# Altium integrated library TI Amplifiers and Linear Operational Amplifier Precision Amplifier Part Two.IntLib: 2300 symbols (part 44 of 81)
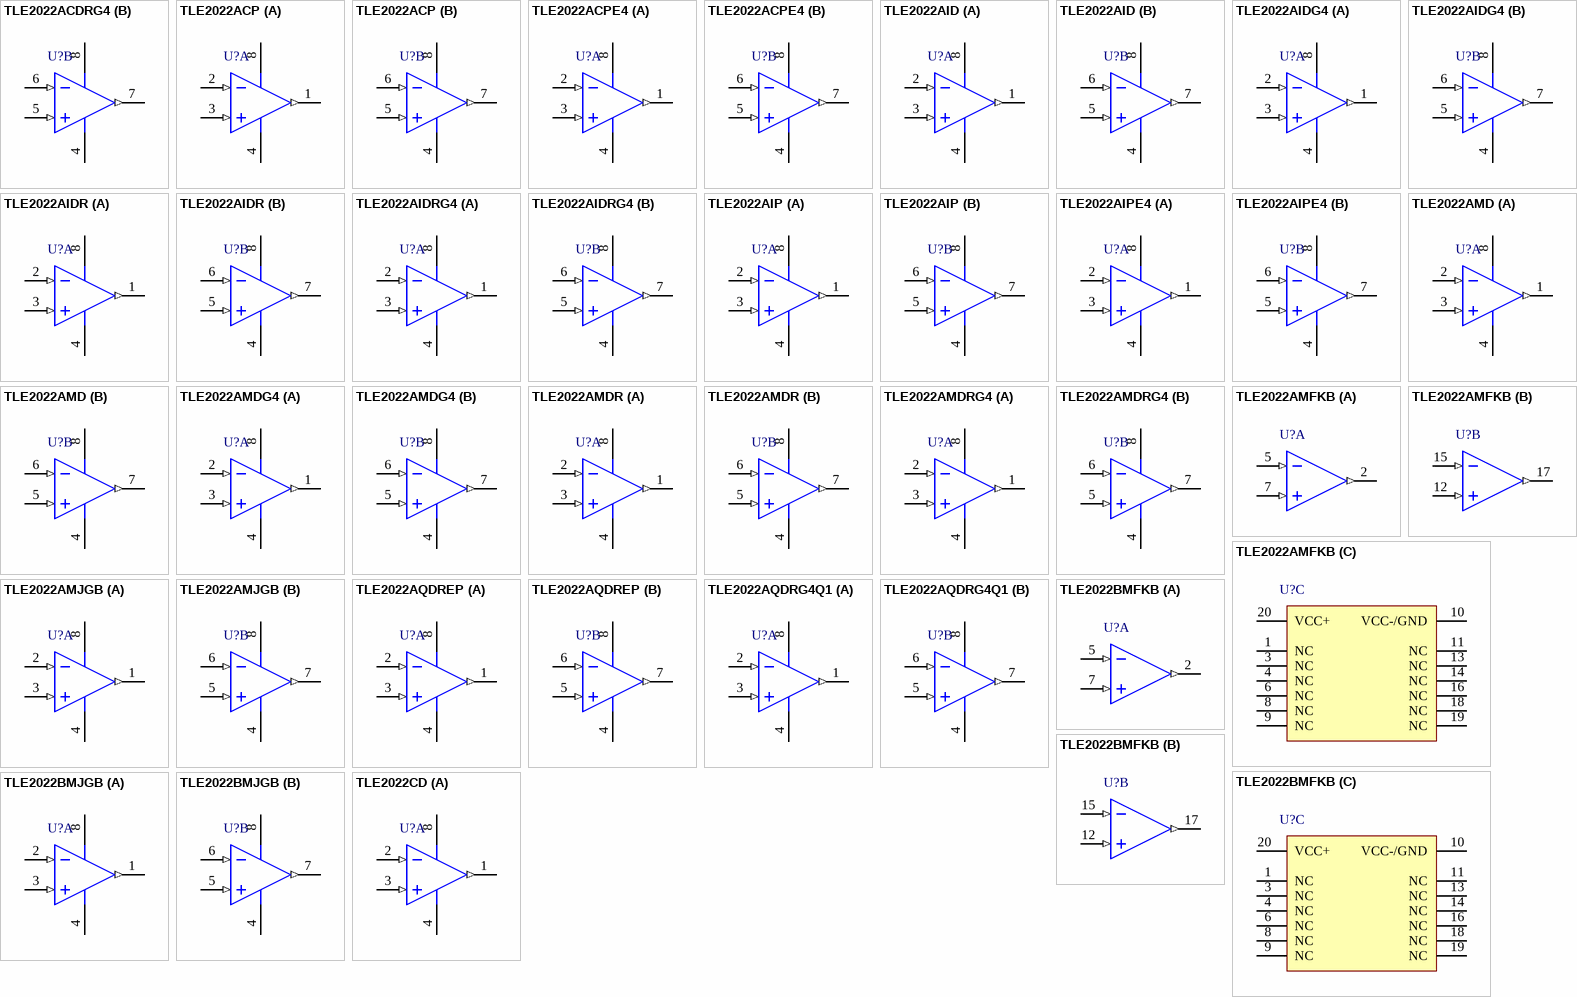
[diagram p179: symbols TLE2022ACDRG4 to TLE2022CD]

## TLE2022ACPE4
designator U?
Excalibur High-Speed Low-Power Precision Dual Operational Amplifier, 4 to 40 V, 0 to 70 degC, 8-pin DIP (P8), Pb-Free (RoHS); Manufacturer: Texas Instruments; PartNumber: TLE2022ACPE4; CMRR(Min)(dB): 87; GBW(Typ)(MHz): 1.7; IIB(Max)(pA): 70000; Iq per channel(Max)(mA): 0.3; Number of Channels: 2; Packing: TUBE; Rating: Catalog; Slew Rate(Typ)(V/us): 0.5; Sub Family: High Supply Voltage Amplifier (>=30V), Low Offset Voltage Amplifier (<=500uV), Low Power Amp (<=500uA), Precision Amplifier; Total Supply Voltage(Max)(+5V is 5, +/-5V is 10): 40; Total Supply Voltage(Min)(+5V is 5, +/-5V is 10): 4; Vio (25C)(Max)(mV): 0.4; DatasheetVersion: SLOS191D; PackageVersion: 4040082/E, 04/2010; PackageReference: P8; PackageDescription: 8-Pin Plastic In-Line, Body 9.59 x 6.35 mm, Pitch 2.54 mm; Supplier 1: Digi-Key; Supplier Part Number 1: TLE2022ACPE4-ND; Supplier 2: Mouser; Supplier Part Number 2: 595-TLE2022ACPE4; Eco-Plan: Pb-Free (RoHS); Offset Drift(Typ)(uV/C): 2; Mounting Technology: Through Hole; Code_JEDEC: MS-001; ComponentLink1Description: Manufacturer URL; ComponentLink1URL: http://www.ti.com/; ComponentLink2Description: Datasheet; ComponentLink2URL: http://www.ti.com/lit/ds/symlink/tle2022a.pdf; ComponentLink3Description: Package Specification; ComponentLink3URL: http://www.ti.com/litv/pdf/mpdi001b
footprint TI-P8 (DIP, 8-Leads, Body 9.59x6.35mm, Pitch 2.54mm)
pins on every part: 4 VCC-/GND (power), 8 VCC+ (power)
part A pins: 1 OUT1 (out), 2 IN1- (in), 3 IN1+ (in)
part B pins: 5 IN2+ (in), 6 IN2- (in), 7 OUT2 (out)

## TLE2022AID
designator U?
Excalibur High-Speed Low-Power Precision Dual Operational Amplifier, 4 to 40 V, -40 to 85 degC, 8-pin SOIC (D8), Green (RoHS & no Sb/Br); Manufacturer: Texas Instruments; PartNumber: TLE2022AID; CMRR(Min)(dB): 87; GBW(Typ)(MHz): 1.7; IIB(Max)(pA): 70000; Iq per channel(Max)(mA): 0.3; Number of Channels: 2; Packing: TUBE; Rating: Catalog; Slew Rate(Typ)(V/us): 0.5; Sub Family: High Supply Voltage Amplifier (>=30V), Low Offset Voltage Amplifier (<=500uV), Low Power Amp (<=500uA), Precision Amplifier; Total Supply Voltage(Max)(+5V is 5, +/-5V is 10): 40; Total Supply Voltage(Min)(+5V is 5, +/-5V is 10): 4; Vio (25C)(Max)(mV): 0.4; DatasheetVersion: SLOS191D; PackageVersion: 4040047-3/M, 06/2011; PackageReference: D8; PackageDescription: 8-Pin Plastic Small Outline, Body 4.9 x 3.9 mm, Pitch 1.27 mm; Supplier 1: Digi-Key; Supplier Part Number 1: 296-10363-5-ND; Supplier 2: Farnell; Supplier Part Number 2: 1575626; Supplier 3: Newark; Supplier Part Number 3: 76C7583; Supplier 4: Mouser; Supplier Part Number 4: 595-TLE2022AID; Eco-Plan: Green (RoHS & no Sb/Br); Offset Drift(Typ)(uV/C): 2; Mounting Technology: Surface Mount; Code_JEDEC: MS-012; ComponentLink1Description: Manufacturer URL; ComponentLink1URL: http://www.ti.com/; ComponentLink2Description: Datasheet; ComponentLink2URL: http://www.ti.com/lit/ds/symlink/tle2022a.pdf; ComponentLink3Description: Package Specification; ComponentLink3URL: http://www.ti.com/litv/pdf/msoi002j
footprint TI-D8_N (SOIC, 8-Leads, Body 4.9x3.9mm, Pitch 1.27mm, IPC Medium Density)
footprint TI-D8_L (SOIC, 8-Leads, Body 4.9x3.9mm, Pitch 1.27mm, IPC High Density)
footprint TI-D8_M (SOIC, 8-Leads, Body 4.9x3.9mm, Pitch 1.27mm, IPC Low Density)
pins on every part: 4 VCC-/GND (power), 8 VCC+ (power)
part A pins: 1 OUT1 (out), 2 IN1- (in), 3 IN1+ (in)
part B pins: 5 IN2+ (in), 6 IN2- (in), 7 OUT2 (out)

## TLE2022AIDG4
designator U?
Excalibur High-Speed Low-Power Precision Dual Operational Amplifier, 4 to 40 V, -40 to 85 degC, 8-pin SOIC (D8), Green (RoHS & no Sb/Br); Manufacturer: Texas Instruments; PartNumber: TLE2022AIDG4; CMRR(Min)(dB): 87; GBW(Typ)(MHz): 1.7; IIB(Max)(pA): 70000; Iq per channel(Max)(mA): 0.3; Number of Channels: 2; Packing: TUBE; Rating: Catalog; Slew Rate(Typ)(V/us): 0.5; Sub Family: High Supply Voltage Amplifier (>=30V), Low Offset Voltage Amplifier (<=500uV), Low Power Amp (<=500uA), Precision Amplifier; Total Supply Voltage(Max)(+5V is 5, +/-5V is 10): 40; Total Supply Voltage(Min)(+5V is 5, +/-5V is 10): 4; Vio (25C)(Max)(mV): 0.4; DatasheetVersion: SLOS191D; PackageVersion: 4040047-3/M, 06/2011; PackageReference: D8; PackageDescription: 8-Pin Plastic Small Outline, Body 4.9 x 3.9 mm, Pitch 1.27 mm; Supplier 1: Digi-Key; Supplier Part Number 1: TLE2022AIDG4-ND; Supplier 2: Mouser; Supplier Part Number 2: 595-TLE2022AIDG4; Eco-Plan: Green (RoHS & no Sb/Br); Offset Drift(Typ)(uV/C): 2; Mounting Technology: Surface Mount; Code_JEDEC: MS-012; ComponentLink1Description: Manufacturer URL; ComponentLink1URL: http://www.ti.com/; ComponentLink2Description: Datasheet; ComponentLink2URL: http://www.ti.com/lit/ds/symlink/tle2022a.pdf; ComponentLink3Description: Package Specification; ComponentLink3URL: http://www.ti.com/litv/pdf/msoi002j
footprint TI-D8_N (SOIC, 8-Leads, Body 4.9x3.9mm, Pitch 1.27mm, IPC Medium Density)
footprint TI-D8_L (SOIC, 8-Leads, Body 4.9x3.9mm, Pitch 1.27mm, IPC High Density)
footprint TI-D8_M (SOIC, 8-Leads, Body 4.9x3.9mm, Pitch 1.27mm, IPC Low Density)
pins on every part: 4 VCC-/GND (power), 8 VCC+ (power)
part A pins: 1 OUT1 (out), 2 IN1- (in), 3 IN1+ (in)
part B pins: 5 IN2+ (in), 6 IN2- (in), 7 OUT2 (out)

## TLE2022AIDR
designator U?
Excalibur High-Speed Low-Power Precision Dual Operational Amplifier, 4 to 40 V, -40 to 85 degC, 8-pin SOIC (D8), Green (RoHS & no Sb/Br); Manufacturer: Texas Instruments; PartNumber: TLE2022AIDR; CMRR(Min)(dB): 87; GBW(Typ)(MHz): 1.7; IIB(Max)(pA): 70000; Iq per channel(Max)(mA): 0.3; Number of Channels: 2; Packing: LARGE T&R; Rating: Catalog; Slew Rate(Typ)(V/us): 0.5; Sub Family: High Supply Voltage Amplifier (>=30V), Low Offset Voltage Amplifier (<=500uV), Low Power Amp (<=500uA), Precision Amplifier; Total Supply Voltage(Max)(+5V is 5, +/-5V is 10): 40; Total Supply Voltage(Min)(+5V is 5, +/-5V is 10): 4; Vio (25C)(Max)(mV): 0.4; DatasheetVersion: SLOS191D; PackageVersion: 4040047-3/M, 06/2011; PackageReference: D8; PackageDescription: 8-Pin Plastic Small Outline, Body 4.9 x 3.9 mm, Pitch 1.27 mm; Supplier 1: Digi-Key; Supplier Part Number 1: 296-26768-2-ND; Supplier 2: Digi-Key; Supplier Part Number 2: 296-26768-1-ND; Supplier 3: Digi-Key; Supplier Part Number 3: 296-26768-6-ND; Supplier 4: Newark; Supplier Part Number 4: 76C7584; Supplier 5: Mouser; Supplier Part Number 5: 595-TLE2022AIDR; Eco-Plan: Green (RoHS & no Sb/Br); Offset Drift(Typ)(uV/C): 2; Mounting Technology: Surface Mount; Code_JEDEC: MS-012; ComponentLink1Description: Manufacturer URL; ComponentLink1URL: http://www.ti.com/; ComponentLink2Description: Datasheet; ComponentLink2URL: http://www.ti.com/lit/ds/symlink/tle2022a.pdf; ComponentLink3Description: Package Specification; ComponentLink3URL: http://www.ti.com/litv/pdf/msoi002j
footprint TI-D8_N (SOIC, 8-Leads, Body 4.9x3.9mm, Pitch 1.27mm, IPC Medium Density)
footprint TI-D8_L (SOIC, 8-Leads, Body 4.9x3.9mm, Pitch 1.27mm, IPC High Density)
footprint TI-D8_M (SOIC, 8-Leads, Body 4.9x3.9mm, Pitch 1.27mm, IPC Low Density)
pins on every part: 4 VCC-/GND (power), 8 VCC+ (power)
part A pins: 1 OUT1 (out), 2 IN1- (in), 3 IN1+ (in)
part B pins: 5 IN2+ (in), 6 IN2- (in), 7 OUT2 (out)

## TLE2022AIDRG4
designator U?
Excalibur High-Speed Low-Power Precision Dual Operational Amplifier, 4 to 40 V, -40 to 85 degC, 8-pin SOIC (D8), Green (RoHS & no Sb/Br); Manufacturer: Texas Instruments; PartNumber: TLE2022AIDRG4; CMRR(Min)(dB): 87; GBW(Typ)(MHz): 1.7; IIB(Max)(pA): 70000; Iq per channel(Max)(mA): 0.3; Number of Channels: 2; Packing: LARGE T&R; Rating: Catalog; Slew Rate(Typ)(V/us): 0.5; Sub Family: High Supply Voltage Amplifier (>=30V), Low Offset Voltage Amplifier (<=500uV), Low Power Amp (<=500uA), Precision Amplifier; Total Supply Voltage(Max)(+5V is 5, +/-5V is 10): 40; Total Supply Voltage(Min)(+5V is 5, +/-5V is 10): 4; Vio (25C)(Max)(mV): 0.4; DatasheetVersion: SLOS191D; PackageVersion: 4040047-3/M, 06/2011; PackageReference: D8; PackageDescription: 8-Pin Plastic Small Outline, Body 4.9 x 3.9 mm, Pitch 1.27 mm; Supplier 1: Digi-Key; Supplier Part Number 1: TLE2022AIDRG4-ND; Supplier 2: Mouser; Supplier Part Number 2: 595-TLE2022AIDRG4; Eco-Plan: Green (RoHS & no Sb/Br); Offset Drift(Typ)(uV/C): 2; Mounting Technology: Surface Mount; Code_JEDEC: MS-012; ComponentLink1Description: Manufacturer URL; ComponentLink1URL: http://www.ti.com/; ComponentLink2Description: Datasheet; ComponentLink2URL: http://www.ti.com/lit/ds/symlink/tle2022a.pdf; ComponentLink3Description: Package Specification; ComponentLink3URL: http://www.ti.com/litv/pdf/msoi002j
footprint TI-D8_N (SOIC, 8-Leads, Body 4.9x3.9mm, Pitch 1.27mm, IPC Medium Density)
footprint TI-D8_L (SOIC, 8-Leads, Body 4.9x3.9mm, Pitch 1.27mm, IPC High Density)
footprint TI-D8_M (SOIC, 8-Leads, Body 4.9x3.9mm, Pitch 1.27mm, IPC Low Density)
pins on every part: 4 VCC-/GND (power), 8 VCC+ (power)
part A pins: 1 OUT1 (out), 2 IN1- (in), 3 IN1+ (in)
part B pins: 5 IN2+ (in), 6 IN2- (in), 7 OUT2 (out)

## TLE2022AIP
designator U?
Excalibur High-Speed Low-Power Precision Dual Operational Amplifier, 4 to 40 V, -40 to 85 degC, 8-pin DIP (P8), Pb-Free (RoHS); Manufacturer: Texas Instruments; PartNumber: TLE2022AIP; CMRR(Min)(dB): 87; GBW(Typ)(MHz): 1.7; IIB(Max)(pA): 70000; Iq per channel(Max)(mA): 0.3; Number of Channels: 2; Packing: TUBE; Rating: Catalog; Slew Rate(Typ)(V/us): 0.5; Sub Family: High Supply Voltage Amplifier (>=30V), Low Offset Voltage Amplifier (<=500uV), Low Power Amp (<=500uA), Precision Amplifier; Total Supply Voltage(Max)(+5V is 5, +/-5V is 10): 40; Total Supply Voltage(Min)(+5V is 5, +/-5V is 10): 4; Vio (25C)(Max)(mV): 0.4; DatasheetVersion: SLOS191D; PackageVersion: 4040082/E, 04/2010; PackageReference: P8; PackageDescription: 8-Pin Plastic In-Line, Body 9.59 x 6.35 mm, Pitch 2.54 mm; Supplier 1: Digi-Key; Supplier Part Number 1: 296-10364-5-ND; Supplier 2: Newark; Supplier Part Number 2: 76C7585; Supplier 3: Mouser; Supplier Part Number 3: 595-TLE2022AIP; Eco-Plan: Pb-Free (RoHS); Offset Drift(Typ)(uV/C): 2; Mounting Technology: Through Hole; Code_JEDEC: MS-001; ComponentLink1Description: Manufacturer URL; ComponentLink1URL: http://www.ti.com/; ComponentLink2Description: Datasheet; ComponentLink2URL: http://www.ti.com/lit/ds/symlink/tle2022a.pdf; ComponentLink3Description: Package Specification; ComponentLink3URL: http://www.ti.com/litv/pdf/mpdi001b
footprint TI-P8 (DIP, 8-Leads, Body 9.59x6.35mm, Pitch 2.54mm)
pins on every part: 4 VCC-/GND (power), 8 VCC+ (power)
part A pins: 1 OUT1 (out), 2 IN1- (in), 3 IN1+ (in)
part B pins: 5 IN2+ (in), 6 IN2- (in), 7 OUT2 (out)

## TLE2022AIPE4
designator U?
Excalibur High-Speed Low-Power Precision Dual Operational Amplifier, 4 to 40 V, -40 to 85 degC, 8-pin DIP (P8), Pb-Free (RoHS); Manufacturer: Texas Instruments; PartNumber: TLE2022AIPE4; CMRR(Min)(dB): 87; GBW(Typ)(MHz): 1.7; IIB(Max)(pA): 70000; Iq per channel(Max)(mA): 0.3; Number of Channels: 2; Packing: TUBE; Rating: Catalog; Slew Rate(Typ)(V/us): 0.5; Sub Family: High Supply Voltage Amplifier (>=30V), Low Offset Voltage Amplifier (<=500uV), Low Power Amp (<=500uA), Precision Amplifier; Total Supply Voltage(Max)(+5V is 5, +/-5V is 10): 40; Total Supply Voltage(Min)(+5V is 5, +/-5V is 10): 4; Vio (25C)(Max)(mV): 0.4; DatasheetVersion: SLOS191D; PackageVersion: 4040082/E, 04/2010; PackageReference: P8; PackageDescription: 8-Pin Plastic In-Line, Body 9.59 x 6.35 mm, Pitch 2.54 mm; Supplier 1: Digi-Key; Supplier Part Number 1: TLE2022AIPE4-ND; Supplier 2: Mouser; Supplier Part Number 2: 595-TLE2022AIPE4; Eco-Plan: Pb-Free (RoHS); Offset Drift(Typ)(uV/C): 2; Mounting Technology: Through Hole; Code_JEDEC: MS-001; ComponentLink1Description: Manufacturer URL; ComponentLink1URL: http://www.ti.com/; ComponentLink2Description: Datasheet; ComponentLink2URL: http://www.ti.com/lit/ds/symlink/tle2022a.pdf; ComponentLink3Description: Package Specification; ComponentLink3URL: http://www.ti.com/litv/pdf/mpdi001b
footprint TI-P8 (DIP, 8-Leads, Body 9.59x6.35mm, Pitch 2.54mm)
pins on every part: 4 VCC-/GND (power), 8 VCC+ (power)
part A pins: 1 OUT1 (out), 2 IN1- (in), 3 IN1+ (in)
part B pins: 5 IN2+ (in), 6 IN2- (in), 7 OUT2 (out)

## TLE2022AMD
designator U?
High-Speed, Low-Power, Precision Dual Operational Amplifier, 4 to 40 V, -55 to 125 degC, 8-pin SOIC (D8), Green (RoHS & no Sb/Br); Manufacturer: Texas Instruments; PartNumber: TLE2022AMD; CMRR(Min)(dB): 87; GBW(Typ)(MHz): 1.7; IIB(Max)(pA): 70000; Iq per channel(Max)(mA): 0.3; Number of Channels: 2; Packing: SMALL T&R; Rating: Military; Slew Rate(Typ)(V/us): 0.5; Sub Family: High Supply Voltage Amplifier (>=30V), Low Offset Voltage Amplifier (<=500uV), Low Power Amp (<=500uA), Precision Amplifier; Total Supply Voltage(Max)(+5V is 5, +/-5V is 10): 40; Total Supply Voltage(Min)(+5V is 5, +/-5V is 10): 4; Vio (25C)(Max)(mV): 0.4; DatasheetVersion: SLOS191D; PackageVersion: 4040047-3/M, 06/2011; PackageReference: D8; PackageDescription: 8-Pin Plastic Small Outline, Body 4.9 x 3.9 mm, Pitch 1.27 mm; Supplier 1: Arrow; Supplier Part Number 1: 983306S9881802N7713; Supplier 2: Digi-Key; Supplier Part Number 2: 296-10365-5-ND; Supplier 3: Farnell; Supplier Part Number 3: 1459862; Supplier 4: Newark; Supplier Part Number 4: 62M0449; Supplier 5: Newark; Supplier Part Number 5: 96B3594; Supplier 6: Mouser; Supplier Part Number 6: 595-TLE2022AMD; Eco-Plan: Green (RoHS & no Sb/Br); Offset Drift(Typ)(uV/C): 2; Mounting Technology: Surface Mount; Code_JEDEC: MS-012; ComponentLink1Description: Manufacturer URL; ComponentLink1URL: http://www.ti.com/; ComponentLink2Description: Datasheet; ComponentLink2URL: http://www.ti.com/lit/ds/symlink/tle2022am.pdf; ComponentLink3Description: Package Specification; ComponentLink3URL: http://www.ti.com/litv/pdf/msoi002j
footprint TI-D8_N (SOIC, 8-Leads, Body 4.9x3.9mm, Pitch 1.27mm, IPC Medium Density)
footprint TI-D8_L (SOIC, 8-Leads, Body 4.9x3.9mm, Pitch 1.27mm, IPC High Density)
footprint TI-D8_M (SOIC, 8-Leads, Body 4.9x3.9mm, Pitch 1.27mm, IPC Low Density)
pins on every part: 4 VCC-/GND (power), 8 VCC+ (power)
part A pins: 1 OUT1 (out), 2 IN1- (in), 3 IN1+ (in)
part B pins: 5 IN2+ (in), 6 IN2- (in), 7 OUT2 (out)

## TLE2022AMDG4
designator U?
High-Speed, Low-Power, Precision Dual Operational Amplifier, 4 to 40 V, -55 to 125 degC, 8-pin SOIC (D8), Green (RoHS & no Sb/Br); Manufacturer: Texas Instruments; PartNumber: TLE2022AMDG4; CMRR(Min)(dB): 87; GBW(Typ)(MHz): 1.7; IIB(Max)(pA): 70000; Iq per channel(Max)(mA): 0.3; Number of Channels: 2; Packing: SMALL T&R; Rating: Military; Slew Rate(Typ)(V/us): 0.5; Sub Family: High Supply Voltage Amplifier (>=30V), Low Offset Voltage Amplifier (<=500uV), Low Power Amp (<=500uA), Precision Amplifier; Total Supply Voltage(Max)(+5V is 5, +/-5V is 10): 40; Total Supply Voltage(Min)(+5V is 5, +/-5V is 10): 4; Vio (25C)(Max)(mV): 0.4; DatasheetVersion: SLOS191D; PackageVersion: 4040047-3/M, 06/2011; PackageReference: D8; PackageDescription: 8-Pin Plastic Small Outline, Body 4.9 x 3.9 mm, Pitch 1.27 mm; Supplier 1: Digi-Key; Supplier Part Number 1: TLE2022AMDG4-ND; Supplier 2: Newark; Supplier Part Number 2: 50M9014; Supplier 3: Mouser; Supplier Part Number 3: 595-TLE2022AMDG4; Eco-Plan: Green (RoHS & no Sb/Br); Offset Drift(Typ)(uV/C): 2; Mounting Technology: Surface Mount; Code_JEDEC: MS-012; ComponentLink1Description: Manufacturer URL; ComponentLink1URL: http://www.ti.com/; ComponentLink2Description: Datasheet; ComponentLink2URL: http://www.ti.com/lit/ds/symlink/tle2022am.pdf; ComponentLink3Description: Package Specification; ComponentLink3URL: http://www.ti.com/litv/pdf/msoi002j
footprint TI-D8_N (SOIC, 8-Leads, Body 4.9x3.9mm, Pitch 1.27mm, IPC Medium Density)
footprint TI-D8_L (SOIC, 8-Leads, Body 4.9x3.9mm, Pitch 1.27mm, IPC High Density)
footprint TI-D8_M (SOIC, 8-Leads, Body 4.9x3.9mm, Pitch 1.27mm, IPC Low Density)
pins on every part: 4 VCC-/GND (power), 8 VCC+ (power)
part A pins: 1 OUT1 (out), 2 IN1- (in), 3 IN1+ (in)
part B pins: 5 IN2+ (in), 6 IN2- (in), 7 OUT2 (out)

## TLE2022AMDR
designator U?
High-Speed, Low-Power, Precision Dual Operational Amplifier, 4 to 40 V, -55 to 125 degC, 8-pin SOIC (D8), Green (RoHS & no Sb/Br); Manufacturer: Texas Instruments; PartNumber: TLE2022AMDR; CMRR(Min)(dB): 87; GBW(Typ)(MHz): 1.7; IIB(Max)(pA): 70000; Iq per channel(Max)(mA): 0.3; Number of Channels: 2; Packing: LARGE T&R; Rating: Military; Slew Rate(Typ)(V/us): 0.5; Sub Family: High Supply Voltage Amplifier (>=30V), Low Offset Voltage Amplifier (<=500uV), Low Power Amp (<=500uA), Precision Amplifier; Total Supply Voltage(Max)(+5V is 5, +/-5V is 10): 40; Total Supply Voltage(Min)(+5V is 5, +/-5V is 10): 4; Vio (25C)(Max)(mV): 0.4; DatasheetVersion: SLOS191D; PackageVersion: 4040047-3/M, 06/2011; PackageReference: D8; PackageDescription: 8-Pin Plastic Small Outline, Body 4.9 x 3.9 mm, Pitch 1.27 mm; Supplier 1: Digi-Key; Supplier Part Number 1: TLE2022AMDR-ND; Supplier 2: Mouser; Supplier Part Number 2: 595-TLE2022AMDR; Eco-Plan: Green (RoHS & no Sb/Br); Offset Drift(Typ)(uV/C): 2; Mounting Technology: Surface Mount; Code_JEDEC: MS-012; ComponentLink1Description: Manufacturer URL; ComponentLink1URL: http://www.ti.com/; ComponentLink2Description: Datasheet; ComponentLink2URL: http://www.ti.com/lit/ds/symlink/tle2022am.pdf; ComponentLink3Description: Package Specification; ComponentLink3URL: http://www.ti.com/litv/pdf/msoi002j
footprint TI-D8_N (SOIC, 8-Leads, Body 4.9x3.9mm, Pitch 1.27mm, IPC Medium Density)
footprint TI-D8_L (SOIC, 8-Leads, Body 4.9x3.9mm, Pitch 1.27mm, IPC High Density)
footprint TI-D8_M (SOIC, 8-Leads, Body 4.9x3.9mm, Pitch 1.27mm, IPC Low Density)
pins on every part: 4 VCC-/GND (power), 8 VCC+ (power)
part A pins: 1 OUT1 (out), 2 IN1- (in), 3 IN1+ (in)
part B pins: 5 IN2+ (in), 6 IN2- (in), 7 OUT2 (out)

## TLE2022AMDRG4
designator U?
High-Speed, Low-Power, Precision Dual Operational Amplifier, 4 to 40 V, -55 to 125 degC, 8-pin SOIC (D8), Green (RoHS & no Sb/Br); Manufacturer: Texas Instruments; PartNumber: TLE2022AMDRG4; CMRR(Min)(dB): 87; GBW(Typ)(MHz): 1.7; IIB(Max)(pA): 70000; Iq per channel(Max)(mA): 0.3; Number of Channels: 2; Packing: LARGE T&R; Rating: Military; Slew Rate(Typ)(V/us): 0.5; Sub Family: High Supply Voltage Amplifier (>=30V), Low Offset Voltage Amplifier (<=500uV), Low Power Amp (<=500uA), Precision Amplifier; Total Supply Voltage(Max)(+5V is 5, +/-5V is 10): 40; Total Supply Voltage(Min)(+5V is 5, +/-5V is 10): 4; Vio (25C)(Max)(mV): 0.4; DatasheetVersion: SLOS191D; PackageVersion: 4040047-3/M, 06/2011; PackageReference: D8; PackageDescription: 8-Pin Plastic Small Outline, Body 4.9 x 3.9 mm, Pitch 1.27 mm; Supplier 1: Digi-Key; Supplier Part Number 1: TLE2022AMDRG4-ND; Supplier 2: Newark; Supplier Part Number 2: 50M9015; Supplier 3: Mouser; Supplier Part Number 3: 595-TLE2022AMDRG4; Eco-Plan: Green (RoHS & no Sb/Br); Offset Drift(Typ)(uV/C): 2; Mounting Technology: Surface Mount; Code_JEDEC: MS-012; ComponentLink1Description: Manufacturer URL; ComponentLink1URL: http://www.ti.com/; ComponentLink2Description: Datasheet; ComponentLink2URL: http://www.ti.com/lit/ds/symlink/tle2022am.pdf; ComponentLink3Description: Package Specification; ComponentLink3URL: http://www.ti.com/litv/pdf/msoi002j
footprint TI-D8_N (SOIC, 8-Leads, Body 4.9x3.9mm, Pitch 1.27mm, IPC Medium Density)
footprint TI-D8_L (SOIC, 8-Leads, Body 4.9x3.9mm, Pitch 1.27mm, IPC High Density)
footprint TI-D8_M (SOIC, 8-Leads, Body 4.9x3.9mm, Pitch 1.27mm, IPC Low Density)
pins on every part: 4 VCC-/GND (power), 8 VCC+ (power)
part A pins: 1 OUT1 (out), 2 IN1- (in), 3 IN1+ (in)
part B pins: 5 IN2+ (in), 6 IN2- (in), 7 OUT2 (out)

## TLE2022AMFKB
designator U?
High-Speed, Low-Power, Precision Dual Operational Amplifier, 4 to 40 V, -55 to 125 degC, 20-pin LCC (FK20); Manufacturer: Texas Instruments; PartNumber: TLE2022AMFKB; CMRR(Min)(dB): 87; GBW(Typ)(MHz): 1.7; IIB(Max)(pA): 70000; Iq per channel(Max)(mA): 0.3; Number of Channels: 2; Packing: TUBE; Rating: Military; Slew Rate(Typ)(V/us): 0.5; Sub Family: High Supply Voltage Amplifier (>=30V), Low Offset Voltage Amplifier (<=500uV), Low Power Amp (<=500uA), Precision Amplifier; Total Supply Voltage(Max)(+5V is 5, +/-5V is 10): 40; Total Supply Voltage(Min)(+5V is 5, +/-5V is 10): 4; Vio (25C)(Max)(mV): 0.4; DatasheetVersion: SLOS191D; PackageVersion: 4040140/D, 01/2011; PackageReference: FK20; PackageDescription: 20-Pin Ceramic, Metal Chip Carrier, Body 8.89 x 8.89 mm, Pitch 1.27 mm; Offset Drift(Typ)(uV/C): 2; Mounting Technology: Surface Mount; Code_JEDEC: MS-004; ComponentLink1Description: Manufacturer URL; ComponentLink1URL: http://www.ti.com/; ComponentLink2Description: Datasheet; ComponentLink2URL: http://www.ti.com/lit/ds/symlink/tle2022am.pdf; ComponentLink3Description: Package Specification; ComponentLink3URL: http://www.ti.com/litv/pdf/mlcc006d
footprint TI-FK20_N (Leadless Chip Carrier, 20-Leads, Body 8.9x8.9mm, Pitch 1.27mm, IPC Medium Density)
footprint TI-FK20_L (Leadless Chip Carrier, 20-Leads, Body 8.9x8.9mm, Pitch 1.27mm, IPC High Density)
footprint TI-FK20_M (Leadless Chip Carrier, 20-Leads, Body 8.9x8.9mm, Pitch 1.27mm, IPC Low Density)
part A pins: 2 OUT1 (out), 5 IN1- (in), 7 IN1+ (in)
part B pins: 12 IN2+ (in), 15 IN2- (in), 17 OUT2 (out)
part C pins: 1 NC, 3 NC, 4 NC, 6 NC, 8 NC, 9 NC, 10 VCC-/GND (power), 11 NC, 13 NC, 14 NC, 16 NC, 18 NC, 19 NC, 20 VCC+ (power)

## TLE2022AMJGB
designator U?
High-Speed, Low-Power, Precision Dual Operational Amplifier, 4 to 40 V, -55 to 125 degC, 8-pin DIP (JG8); Manufacturer: Texas Instruments; PartNumber: TLE2022AMJGB; CMRR(Min)(dB): 87; GBW(Typ)(MHz): 1.7; IIB(Max)(pA): 70000; Iq per channel(Max)(mA): 0.3; Number of Channels: 2; Packing: TUBE; Rating: Military; Slew Rate(Typ)(V/us): 0.5; Sub Family: High Supply Voltage Amplifier (>=30V), Low Offset Voltage Amplifier (<=500uV), Low Power Amp (<=500uA), Precision Amplifier; Total Supply Voltage(Max)(+5V is 5, +/-5V is 10): 40; Total Supply Voltage(Min)(+5V is 5, +/-5V is 10): 4; Vio (25C)(Max)(mV): 0.4; DatasheetVersion: SLOS191D; PackageVersion: 4040107/C, 08/1996; PackageReference: JG8; PackageDescription: 8-Pin Ceramic, Glass In-Line, Body 9.58 x 6.665 mm, Pitch 2.54 mm; Offset Drift(Typ)(uV/C): 2; Mounting Technology: Through Hole; ComponentLink1Description: Manufacturer URL; ComponentLink1URL: http://www.ti.com/; ComponentLink2Description: Datasheet; ComponentLink2URL: http://www.ti.com/lit/ds/symlink/tle2022am.pdf; ComponentLink3Description: Package Specification; ComponentLink3URL: http://www.ti.com/litv/pdf/mcer001a
footprint TI-JG8 (DIP, 8-Leads, Body 10.15x7.1mm, Pitch 2.54mm)
pins on every part: 4 VCC-/GND (power), 8 VCC+ (power)
part A pins: 1 OUT1 (out), 2 IN1- (in), 3 IN1+ (in)
part B pins: 5 IN2+ (in), 6 IN2- (in), 7 OUT2 (out)

## TLE2022AQDREP
designator U?
Enhanced Product Excalibur High-Speed Low-Power Precision Operational Amplifier, 4 to 40 V, -40 to 125 degC, 8-pin SOIC (D8), Green (RoHS & no Sb/Br); Manufacturer: Texas Instruments; PartNumber: TLE2022AQDREP; CMRR(Min)(dB): 87; GBW(Typ)(MHz): 1.7; IIB(Max)(pA): 70000; Iq per channel(Max)(mA): 0.3; Number of Channels: 2; Packing: LARGE T&R; Rating: HiRel Enhanced Product; Slew Rate(Typ)(V/us): 0.5; Sub Family: High Supply Voltage Amplifier (>=30V), Low Offset Voltage Amplifier (<=500uV), Low Power Amp (<=500uA), Precision Amplifier; Total Supply Voltage(Max)(+5V is 5, +/-5V is 10): 40; Total Supply Voltage(Min)(+5V is 5, +/-5V is 10): 4; Vio (25C)(Max)(mV): 0.4; DatasheetVersion: SGLS235D; PackageVersion: 4040047-3/M, 06/2011; PackageReference: D8; PackageDescription: 8-Pin Plastic Small Outline, Body 4.9 x 3.9 mm, Pitch 1.27 mm; Supplier 1: Digi-Key; Supplier Part Number 1: 296-18144-2-ND; Supplier 2: Digi-Key; Supplier Part Number 2: 296-18144-1-ND; Supplier 3: Digi-Key; Supplier Part Number 3: 296-18144-6-ND; Supplier 4: Newark; Supplier Part Number 4: 46M0945; Supplier 5: Mouser; Supplier Part Number 5: 595-TLE2022AQDREP; Eco-Plan: Green (RoHS & no Sb/Br); Offset Drift(Typ)(uV/C): 2; Mounting Technology: Surface Mount; Code_JEDEC: MS-012; ComponentLink1Description: Manufacturer URL; ComponentLink1URL: http://www.ti.com/; ComponentLink2Description: Datasheet; ComponentLink2URL: http://www.ti.com/lit/ds/symlink/tle2022a-ep.pdf; ComponentLink3Description: Package Specification; ComponentLink3URL: http://www.ti.com/litv/pdf/msoi002j
footprint TI-D8_N (SOIC, 8-Leads, Body 4.9x3.9mm, Pitch 1.27mm, IPC Medium Density)
footprint TI-D8_L (SOIC, 8-Leads, Body 4.9x3.9mm, Pitch 1.27mm, IPC High Density)
footprint TI-D8_M (SOIC, 8-Leads, Body 4.9x3.9mm, Pitch 1.27mm, IPC Low Density)
pins on every part: 4 VCC-/GND (power), 8 VCC+ (power)
part A pins: 1 OUT1 (out), 2 IN1- (in), 3 IN1+ (in)
part B pins: 5 IN2+ (in), 6 IN2- (in), 7 OUT2 (out)

## TLE2022AQDRG4Q1
designator U?
Automotive Catalog Excalibur High-Speed Low-Power Precision Operational Amplifier, 4 to 40 V, -40 to 125 degC, 8-pin SOIC (D8), Green (RoHS & no Sb/Br); Manufacturer: Texas Instruments; PartNumber: TLE2022AQDRG4Q1; CMRR(Min)(dB): 87; GBW(Typ)(MHz): 1.7; IIB(Max)(pA): 70000; Iq per channel(Max)(mA): 0.3; Number of Channels: 2; Packing: LARGE T&R; Slew Rate(Typ)(V/us): 0.5; Sub Family: High Supply Voltage Amplifier (>=30V), Low Offset Voltage Amplifier (<=500uV), Low Power Amp (<=500uA), Precision Amplifier; Total Supply Voltage(Max)(+5V is 5, +/-5V is 10): 40; Total Supply Voltage(Min)(+5V is 5, +/-5V is 10): 4; Vio (25C)(Max)(mV): 0.4; DatasheetVersion: SGLS199B; PackageVersion: 4040047-3/M, 06/2011; PackageReference: D8; PackageDescription: 8-Pin Plastic Small Outline, Body 4.9 x 3.9 mm, Pitch 1.27 mm; Supplier 1: Digi-Key; Supplier Part Number 1: TLE2022AQDRG4Q1-ND; Supplier 2: Mouser; Supplier Part Number 2: 595-TLE2022AQDRG4Q1; Eco-Plan: Green (RoHS & no Sb/Br); Offset Drift(Typ)(uV/C): 2; Rating: Automotive; Mounting Technology: Surface Mount; Code_JEDEC: MS-012; ComponentLink1Description: Manufacturer URL; ComponentLink1URL: http://www.ti.com/; ComponentLink2Description: Datasheet; ComponentLink2URL: http://www.ti.com/lit/ds/symlink/tle2022a-q1.pdf; ComponentLink3Description: Package Specification; ComponentLink3URL: http://www.ti.com/litv/pdf/msoi002j
footprint TI-D8_N (SOIC, 8-Leads, Body 4.9x3.9mm, Pitch 1.27mm, IPC Medium Density)
footprint TI-D8_L (SOIC, 8-Leads, Body 4.9x3.9mm, Pitch 1.27mm, IPC High Density)
footprint TI-D8_M (SOIC, 8-Leads, Body 4.9x3.9mm, Pitch 1.27mm, IPC Low Density)
pins on every part: 4 VCC-/GND (power), 8 VCC+ (power)
part A pins: 1 OUT1 (out), 2 IN1- (in), 3 IN1+ (in)
part B pins: 5 IN2+ (in), 6 IN2- (in), 7 OUT2 (out)

## TLE2022BMFKB
designator U?
High-Speed, Low-Power, Precision Dual Operational Amplifier, 4 to 40 V, -55 to 125 degC, 20-pin LCC (FK20); Manufacturer: Texas Instruments; PartNumber: TLE2022BMFKB; CMRR(Min)(dB): 90; GBW(Typ)(MHz): 1.7; IIB(Max)(pA): 70000; Iq per channel(Max)(mA): 0.3; Number of Channels: 2; Packing: TUBE; Rating: Military; Slew Rate(Typ)(V/us): 0.5; Sub Family: High Supply Voltage Amplifier (>=30V), Low Offset Voltage Amplifier (<=500uV), Low Power Amp (<=500uA), Precision Amplifier; Total Supply Voltage(Max)(+5V is 5, +/-5V is 10): 40; Total Supply Voltage(Min)(+5V is 5, +/-5V is 10): 4; Vio (25C)(Max)(mV): 0.25; DatasheetVersion: SLOS191D; PackageVersion: 4040140/D, 01/2011; PackageReference: FK20; PackageDescription: 20-Pin Ceramic, Metal Chip Carrier, Body 8.89 x 8.89 mm, Pitch 1.27 mm; Offset Drift(Typ)(uV/C): 2; Mounting Technology: Surface Mount; Code_JEDEC: MS-004; ComponentLink1Description: Manufacturer URL; ComponentLink1URL: http://www.ti.com/; ComponentLink2Description: Datasheet; ComponentLink2URL: http://www.ti.com/lit/ds/symlink/tle2022bm.pdf; ComponentLink3Description: Package Specification; ComponentLink3URL: http://www.ti.com/litv/pdf/mlcc006d
footprint TI-FK20_N (Leadless Chip Carrier, 20-Leads, Body 8.9x8.9mm, Pitch 1.27mm, IPC Medium Density)
footprint TI-FK20_L (Leadless Chip Carrier, 20-Leads, Body 8.9x8.9mm, Pitch 1.27mm, IPC High Density)
footprint TI-FK20_M (Leadless Chip Carrier, 20-Leads, Body 8.9x8.9mm, Pitch 1.27mm, IPC Low Density)
part A pins: 2 OUT1 (out), 5 IN1- (in), 7 IN1+ (in)
part B pins: 12 IN2+ (in), 15 IN2- (in), 17 OUT2 (out)
part C pins: 1 NC, 3 NC, 4 NC, 6 NC, 8 NC, 9 NC, 10 VCC-/GND (power), 11 NC, 13 NC, 14 NC, 16 NC, 18 NC, 19 NC, 20 VCC+ (power)

## TLE2022BMJGB
designator U?
High-Speed, Low-Power, Precision Dual Operational Amplifier, 4 to 40 V, -55 to 125 degC, 8-pin DIP (JG8); Manufacturer: Texas Instruments; PartNumber: TLE2022BMJGB; CMRR(Min)(dB): 90; GBW(Typ)(MHz): 1.7; IIB(Max)(pA): 70000; Iq per channel(Max)(mA): 0.3; Number of Channels: 2; Packing: TUBE; Rating: Military; Slew Rate(Typ)(V/us): 0.5; Sub Family: High Supply Voltage Amplifier (>=30V), Low Offset Voltage Amplifier (<=500uV), Low Power Amp (<=500uA), Precision Amplifier; Total Supply Voltage(Max)(+5V is 5, +/-5V is 10): 40; Total Supply Voltage(Min)(+5V is 5, +/-5V is 10): 4; Vio (25C)(Max)(mV): 0.25; DatasheetVersion: SLOS191D; PackageVersion: 4040107/C, 08/1996; PackageReference: JG8; PackageDescription: 8-Pin Ceramic, Glass In-Line, Body 9.58 x 6.665 mm, Pitch 2.54 mm; Offset Drift(Typ)(uV/C): 2; Mounting Technology: Through Hole; ComponentLink1Description: Manufacturer URL; ComponentLink1URL: http://www.ti.com/; ComponentLink2Description: Datasheet; ComponentLink2URL: http://www.ti.com/lit/ds/symlink/tle2022bm.pdf; ComponentLink3Description: Package Specification; ComponentLink3URL: http://www.ti.com/litv/pdf/mcer001a
footprint TI-JG8 (DIP, 8-Leads, Body 10.15x7.1mm, Pitch 2.54mm)
pins on every part: 4 VCC-/GND (power), 8 VCC+ (power)
part A pins: 1 OUT1 (out), 2 IN1- (in), 3 IN1+ (in)
part B pins: 5 IN2+ (in), 6 IN2- (in), 7 OUT2 (out)

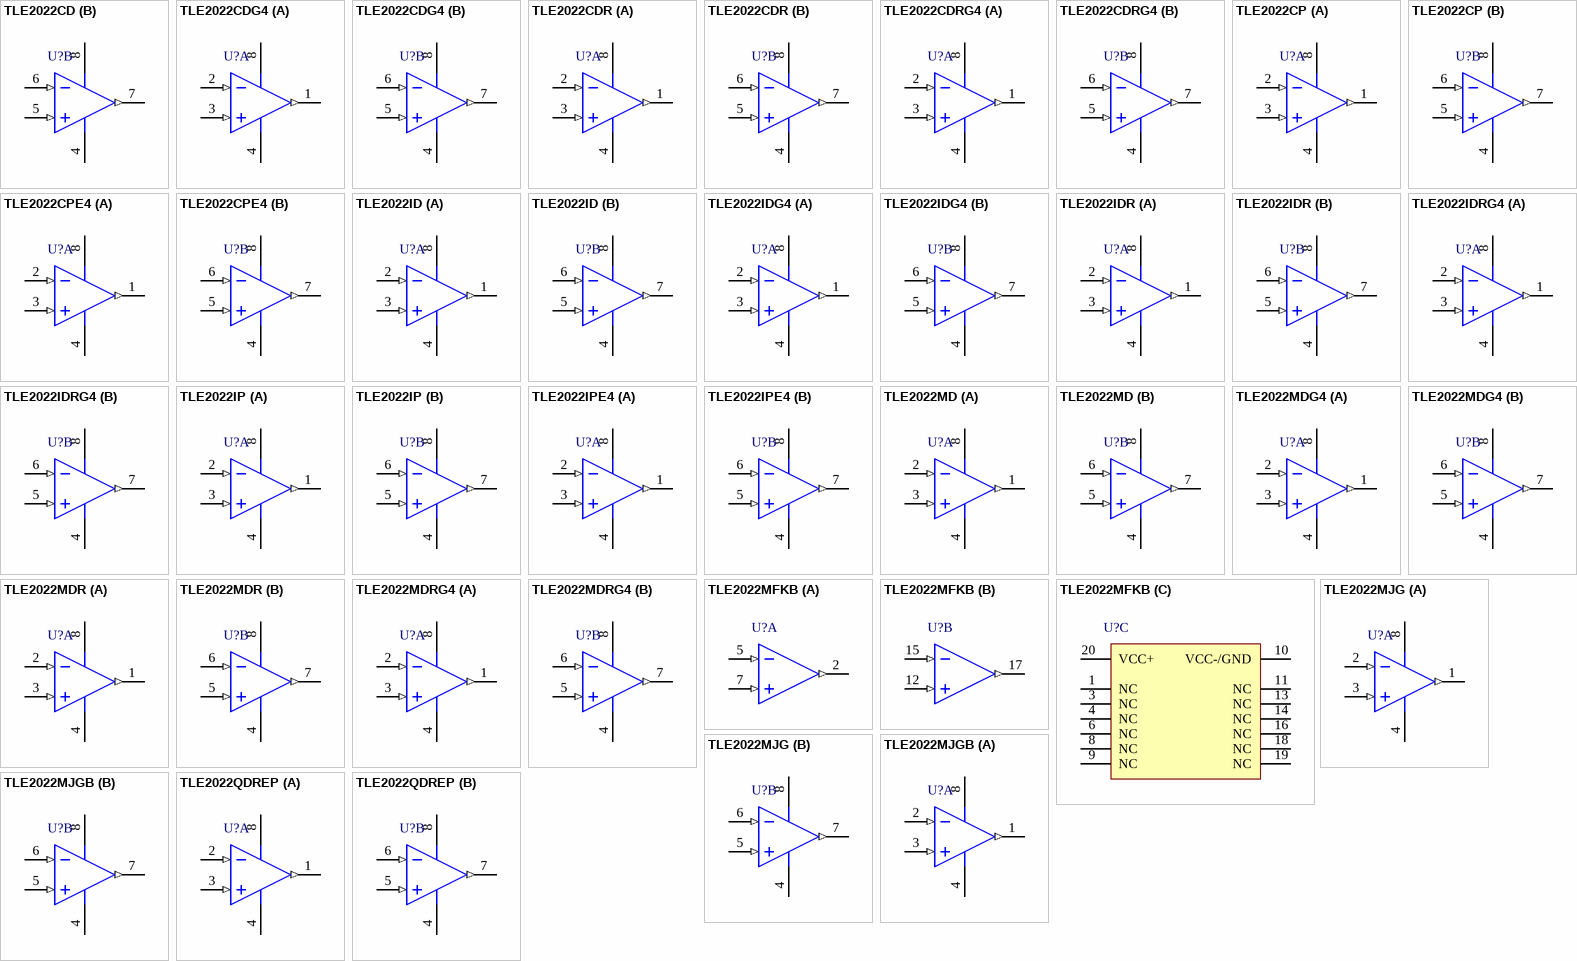
[diagram p74: symbols TLE2022CD to TLE2022QDREP]

## TLE2022CD
designator U?
Dual Precision Low-Power Single Supply Operational Amplifier, 4 to 40 V, 0 to 70 degC, 8-pin SOIC (D8), Green (RoHS & no Sb/Br); Manufacturer: Texas Instruments; PartNumber: TLE2022CD; CMRR(Min)(dB): 85; GBW(Typ)(MHz): 1.7; IIB(Max)(pA): 70000; Iq per channel(Max)(mA): 0.3; Number of Channels: 2; Packing: TUBE; Rating: Catalog; Slew Rate(Typ)(V/us): 0.5; Sub Family: High Supply Voltage Amplifier (>=30V), Low Offset Voltage Amplifier (<=500uV), Low Power Amp (<=500uA), Precision Amplifier; Total Supply Voltage(Max)(+5V is 5, +/-5V is 10): 40; Total Supply Voltage(Min)(+5V is 5, +/-5V is 10): 4; Vio (25C)(Max)(mV): 0.6; DatasheetVersion: SLOS191D; PackageVersion: 4040047-3/M, 06/2011; PackageReference: D8; PackageDescription: 8-Pin Plastic Small Outline, Body 4.9 x 3.9 mm, Pitch 1.27 mm; Supplier 1: Digi-Key; Supplier Part Number 1: 296-1873-5-ND; Supplier 2: Farnell; Supplier Part Number 2: 1470359; Supplier 3: Newark; Supplier Part Number 3: 08F9160; Supplier 4: Mouser; Supplier Part Number 4: 595-TLE2022CD; Eco-Plan: Green (RoHS & no Sb/Br); Offset Drift(Typ)(uV/C): 2; Mounting Technology: Surface Mount; Code_JEDEC: MS-012; ComponentLink1Description: Manufacturer URL; ComponentLink1URL: http://www.ti.com/; ComponentLink2Description: Datasheet; ComponentLink2URL: http://www.ti.com/lit/ds/symlink/tle2022.pdf; ComponentLink3Description: Package Specification; ComponentLink3URL: http://www.ti.com/litv/pdf/msoi002j
footprint TI-D8_N (SOIC, 8-Leads, Body 4.9x3.9mm, Pitch 1.27mm, IPC Medium Density)
footprint TI-D8_L (SOIC, 8-Leads, Body 4.9x3.9mm, Pitch 1.27mm, IPC High Density)
footprint TI-D8_M (SOIC, 8-Leads, Body 4.9x3.9mm, Pitch 1.27mm, IPC Low Density)
pins on every part: 4 VCC-/GND (power), 8 VCC+ (power)
part A pins: 1 OUT1 (out), 2 IN1- (in), 3 IN1+ (in)
part B pins: 5 IN2+ (in), 6 IN2- (in), 7 OUT2 (out)

## TLE2022CDG4
designator U?
Dual Precision Low-Power Single Supply Operational Amplifier, 4 to 40 V, 0 to 70 degC, 8-pin SOIC (D8), Green (RoHS & no Sb/Br); Manufacturer: Texas Instruments; PartNumber: TLE2022CDG4; CMRR(Min)(dB): 85; GBW(Typ)(MHz): 1.7; IIB(Max)(pA): 70000; Iq per channel(Max)(mA): 0.3; Number of Channels: 2; Packing: TUBE; Rating: Catalog; Slew Rate(Typ)(V/us): 0.5; Sub Family: High Supply Voltage Amplifier (>=30V), Low Offset Voltage Amplifier (<=500uV), Low Power Amp (<=500uA), Precision Amplifier; Total Supply Voltage(Max)(+5V is 5, +/-5V is 10): 40; Total Supply Voltage(Min)(+5V is 5, +/-5V is 10): 4; Vio (25C)(Max)(mV): 0.6; DatasheetVersion: SLOS191D; PackageVersion: 4040047-3/M, 06/2011; PackageReference: D8; PackageDescription: 8-Pin Plastic Small Outline, Body 4.9 x 3.9 mm, Pitch 1.27 mm; Supplier 1: Digi-Key; Supplier Part Number 1: TLE2022CDG4-ND; Supplier 2: Newark; Supplier Part Number 2: 54K1062; Supplier 3: Mouser; Supplier Part Number 3: 595-TLE2022CDG4; Eco-Plan: Green (RoHS & no Sb/Br); Offset Drift(Typ)(uV/C): 2; Mounting Technology: Surface Mount; Code_JEDEC: MS-012; ComponentLink1Description: Manufacturer URL; ComponentLink1URL: http://www.ti.com/; ComponentLink2Description: Datasheet; ComponentLink2URL: http://www.ti.com/lit/ds/symlink/tle2022.pdf; ComponentLink3Description: Package Specification; ComponentLink3URL: http://www.ti.com/litv/pdf/msoi002j
footprint TI-D8_N (SOIC, 8-Leads, Body 4.9x3.9mm, Pitch 1.27mm, IPC Medium Density)
footprint TI-D8_L (SOIC, 8-Leads, Body 4.9x3.9mm, Pitch 1.27mm, IPC High Density)
footprint TI-D8_M (SOIC, 8-Leads, Body 4.9x3.9mm, Pitch 1.27mm, IPC Low Density)
pins on every part: 4 VCC-/GND (power), 8 VCC+ (power)
part A pins: 1 OUT1 (out), 2 IN1- (in), 3 IN1+ (in)
part B pins: 5 IN2+ (in), 6 IN2- (in), 7 OUT2 (out)

## TLE2022CDR
designator U?
Dual Precision Low-Power Single Supply Operational Amplifier, 4 to 40 V, 0 to 70 degC, 8-pin SOIC (D8), Green (RoHS & no Sb/Br); Manufacturer: Texas Instruments; PartNumber: TLE2022CDR; CMRR(Min)(dB): 85; GBW(Typ)(MHz): 1.7; IIB(Max)(pA): 70000; Iq per channel(Max)(mA): 0.3; Number of Channels: 2; Packing: LARGE T&R; Rating: Catalog; Slew Rate(Typ)(V/us): 0.5; Sub Family: High Supply Voltage Amplifier (>=30V), Low Offset Voltage Amplifier (<=500uV), Low Power Amp (<=500uA), Precision Amplifier; Total Supply Voltage(Max)(+5V is 5, +/-5V is 10): 40; Total Supply Voltage(Min)(+5V is 5, +/-5V is 10): 4; Vio (25C)(Max)(mV): 0.6; DatasheetVersion: SLOS191D; PackageVersion: 4040047-3/M, 06/2011; PackageReference: D8; PackageDescription: 8-Pin Plastic Small Outline, Body 4.9 x 3.9 mm, Pitch 1.27 mm; Supplier 1: Digi-Key; Supplier Part Number 1: 296-26769-2-ND; Supplier 2: Digi-Key; Supplier Part Number 2: 296-26769-1-ND; Supplier 3: Digi-Key; Supplier Part Number 3: 296-26769-6-ND; Supplier 4: Farnell; Supplier Part Number 4: 1535746; Supplier 5: Newark; Supplier Part Number 5: 76C7586; Supplier 6: Mouser; Supplier Part Number 6: 595-TLE2022CDR; Eco-Plan: Green (RoHS & no Sb/Br); Offset Drift(Typ)(uV/C): 2; Mounting Technology: Surface Mount; Code_JEDEC: MS-012; ComponentLink1Description: Manufacturer URL; ComponentLink1URL: http://www.ti.com/; ComponentLink2Description: Datasheet; ComponentLink2URL: http://www.ti.com/lit/ds/symlink/tle2022.pdf; ComponentLink3Description: Package Specification; ComponentLink3URL: http://www.ti.com/litv/pdf/msoi002j
footprint TI-D8_N (SOIC, 8-Leads, Body 4.9x3.9mm, Pitch 1.27mm, IPC Medium Density)
footprint TI-D8_L (SOIC, 8-Leads, Body 4.9x3.9mm, Pitch 1.27mm, IPC High Density)
footprint TI-D8_M (SOIC, 8-Leads, Body 4.9x3.9mm, Pitch 1.27mm, IPC Low Density)
pins on every part: 4 VCC-/GND (power), 8 VCC+ (power)
part A pins: 1 OUT1 (out), 2 IN1- (in), 3 IN1+ (in)
part B pins: 5 IN2+ (in), 6 IN2- (in), 7 OUT2 (out)

## TLE2022CDRG4
designator U?
Dual Precision Low-Power Single Supply Operational Amplifier, 4 to 40 V, 0 to 70 degC, 8-pin SOIC (D8), Green (RoHS & no Sb/Br); Manufacturer: Texas Instruments; PartNumber: TLE2022CDRG4; CMRR(Min)(dB): 85; GBW(Typ)(MHz): 1.7; IIB(Max)(pA): 70000; Iq per channel(Max)(mA): 0.3; Number of Channels: 2; Packing: LARGE T&R; Rating: Catalog; Slew Rate(Typ)(V/us): 0.5; Sub Family: High Supply Voltage Amplifier (>=30V), Low Offset Voltage Amplifier (<=500uV), Low Power Amp (<=500uA), Precision Amplifier; Total Supply Voltage(Max)(+5V is 5, +/-5V is 10): 40; Total Supply Voltage(Min)(+5V is 5, +/-5V is 10): 4; Vio (25C)(Max)(mV): 0.6; DatasheetVersion: SLOS191D; PackageVersion: 4040047-3/M, 06/2011; PackageReference: D8; PackageDescription: 8-Pin Plastic Small Outline, Body 4.9 x 3.9 mm, Pitch 1.27 mm; Supplier 1: Digi-Key; Supplier Part Number 1: TLE2022CDRG4-ND; Supplier 2: Newark; Supplier Part Number 2: 54K1063; Supplier 3: Mouser; Supplier Part Number 3: 595-TLE2022CDRG4; Eco-Plan: Green (RoHS & no Sb/Br); Offset Drift(Typ)(uV/C): 2; Mounting Technology: Surface Mount; Code_JEDEC: MS-012; ComponentLink1Description: Manufacturer URL; ComponentLink1URL: http://www.ti.com/; ComponentLink2Description: Datasheet; ComponentLink2URL: http://www.ti.com/lit/ds/symlink/tle2022.pdf; ComponentLink3Description: Package Specification; ComponentLink3URL: http://www.ti.com/litv/pdf/msoi002j
footprint TI-D8_N (SOIC, 8-Leads, Body 4.9x3.9mm, Pitch 1.27mm, IPC Medium Density)
footprint TI-D8_L (SOIC, 8-Leads, Body 4.9x3.9mm, Pitch 1.27mm, IPC High Density)
footprint TI-D8_M (SOIC, 8-Leads, Body 4.9x3.9mm, Pitch 1.27mm, IPC Low Density)
pins on every part: 4 VCC-/GND (power), 8 VCC+ (power)
part A pins: 1 OUT1 (out), 2 IN1- (in), 3 IN1+ (in)
part B pins: 5 IN2+ (in), 6 IN2- (in), 7 OUT2 (out)

## TLE2022CP
designator U?
Dual Precision Low-Power Single Supply Operational Amplifier, 4 to 40 V, 0 to 70 degC, 8-pin DIP (P8), Pb-Free (RoHS); Manufacturer: Texas Instruments; PartNumber: TLE2022CP; CMRR(Min)(dB): 85; GBW(Typ)(MHz): 1.7; IIB(Max)(pA): 70000; Iq per channel(Max)(mA): 0.3; Number of Channels: 2; Packing: TUBE; Rating: Catalog; Slew Rate(Typ)(V/us): 0.5; Sub Family: High Supply Voltage Amplifier (>=30V), Low Offset Voltage Amplifier (<=500uV), Low Power Amp (<=500uA), Precision Amplifier; Total Supply Voltage(Max)(+5V is 5, +/-5V is 10): 40; Total Supply Voltage(Min)(+5V is 5, +/-5V is 10): 4; Vio (25C)(Max)(mV): 0.6; DatasheetVersion: SLOS191D; PackageVersion: 4040082/E, 04/2010; PackageReference: P8; PackageDescription: 8-Pin Plastic In-Line, Body 9.59 x 6.35 mm, Pitch 2.54 mm; Supplier 1: Digi-Key; Supplier Part Number 1: 296-10366-5-ND; Supplier 2: Farnell; Supplier Part Number 2: 2387402; Supplier 3: Newark; Supplier Part Number 3: 08F9161; Supplier 4: Mouser; Supplier Part Number 4: 595-TLE2022CP; Eco-Plan: Pb-Free (RoHS); Offset Drift(Typ)(uV/C): 2; Mounting Technology: Through Hole; Code_JEDEC: MS-001; ComponentLink1Description: Manufacturer URL; ComponentLink1URL: http://www.ti.com/; ComponentLink2Description: Datasheet; ComponentLink2URL: http://www.ti.com/lit/ds/symlink/tle2022.pdf; ComponentLink3Description: Package Specification; ComponentLink3URL: http://www.ti.com/litv/pdf/mpdi001b
footprint TI-P8 (DIP, 8-Leads, Body 9.59x6.35mm, Pitch 2.54mm)
pins on every part: 4 VCC-/GND (power), 8 VCC+ (power)
part A pins: 1 OUT1 (out), 2 IN1- (in), 3 IN1+ (in)
part B pins: 5 IN2+ (in), 6 IN2- (in), 7 OUT2 (out)

## TLE2022CPE4
designator U?
Dual Precision Low-Power Single Supply Operational Amplifier, 4 to 40 V, 0 to 70 degC, 8-pin DIP (P8), Pb-Free (RoHS); Manufacturer: Texas Instruments; PartNumber: TLE2022CPE4; CMRR(Min)(dB): 85; GBW(Typ)(MHz): 1.7; IIB(Max)(pA): 70000; Iq per channel(Max)(mA): 0.3; Number of Channels: 2; Packing: TUBE; Rating: Catalog; Slew Rate(Typ)(V/us): 0.5; Sub Family: High Supply Voltage Amplifier (>=30V), Low Offset Voltage Amplifier (<=500uV), Low Power Amp (<=500uA), Precision Amplifier; Total Supply Voltage(Max)(+5V is 5, +/-5V is 10): 40; Total Supply Voltage(Min)(+5V is 5, +/-5V is 10): 4; Vio (25C)(Max)(mV): 0.6; DatasheetVersion: SLOS191D; PackageVersion: 4040082/E, 04/2010; PackageReference: P8; PackageDescription: 8-Pin Plastic In-Line, Body 9.59 x 6.35 mm, Pitch 2.54 mm; Supplier 1: Digi-Key; Supplier Part Number 1: TLE2022CPE4-ND; Supplier 2: Farnell; Supplier Part Number 2: 1234686; Supplier 3: Newark; Supplier Part Number 3: 13M3158; Supplier 4: Mouser; Supplier Part Number 4: 595-TLE2022CPE4; Eco-Plan: Pb-Free (RoHS); Offset Drift(Typ)(uV/C): 2; Mounting Technology: Through Hole; Code_JEDEC: MS-001; ComponentLink1Description: Manufacturer URL; ComponentLink1URL: http://www.ti.com/; ComponentLink2Description: Datasheet; ComponentLink2URL: http://www.ti.com/lit/ds/symlink/tle2022.pdf; ComponentLink3Description: Package Specification; ComponentLink3URL: http://www.ti.com/litv/pdf/mpdi001b
footprint TI-P8 (DIP, 8-Leads, Body 9.59x6.35mm, Pitch 2.54mm)
pins on every part: 4 VCC-/GND (power), 8 VCC+ (power)
part A pins: 1 OUT1 (out), 2 IN1- (in), 3 IN1+ (in)
part B pins: 5 IN2+ (in), 6 IN2- (in), 7 OUT2 (out)

## TLE2022ID
designator U?
Dual Precision Low-Power Single Supply Operational Amplifier, 4 to 40 V, -40 to 85 degC, 8-pin SOIC (D8), Green (RoHS & no Sb/Br); Manufacturer: Texas Instruments; PartNumber: TLE2022ID; CMRR(Min)(dB): 85; GBW(Typ)(MHz): 1.7; IIB(Max)(pA): 70000; Iq per channel(Max)(mA): 0.3; Number of Channels: 2; Packing: TUBE; Rating: Catalog; Slew Rate(Typ)(V/us): 0.5; Sub Family: High Supply Voltage Amplifier (>=30V), Low Offset Voltage Amplifier (<=500uV), Low Power Amp (<=500uA), Precision Amplifier; Total Supply Voltage(Max)(+5V is 5, +/-5V is 10): 40; Total Supply Voltage(Min)(+5V is 5, +/-5V is 10): 4; Vio (25C)(Max)(mV): 0.6; DatasheetVersion: SLOS191D; PackageVersion: 4040047-3/M, 06/2011; PackageReference: D8; PackageDescription: 8-Pin Plastic Small Outline, Body 4.9 x 3.9 mm, Pitch 1.27 mm; Supplier 1: Digi-Key; Supplier Part Number 1: 296-10367-5-ND; Supplier 2: Farnell; Supplier Part Number 2: 1102940; Supplier 3: Newark; Supplier Part Number 3: 24M8301; Supplier 4: Newark; Supplier Part Number 4: 76C7587; Supplier 5: Mouser; Supplier Part Number 5: 595-TLE2022ID; Eco-Plan: Green (RoHS & no Sb/Br); Offset Drift(Typ)(uV/C): 2; Mounting Technology: Surface Mount; Code_JEDEC: MS-012; ComponentLink1Description: Manufacturer URL; ComponentLink1URL: http://www.ti.com/; ComponentLink2Description: Datasheet; ComponentLink2URL: http://www.ti.com/lit/ds/symlink/tle2022.pdf; ComponentLink3Description: Package Specification; ComponentLink3URL: http://www.ti.com/litv/pdf/msoi002j
footprint TI-D8_N (SOIC, 8-Leads, Body 4.9x3.9mm, Pitch 1.27mm, IPC Medium Density)
footprint TI-D8_L (SOIC, 8-Leads, Body 4.9x3.9mm, Pitch 1.27mm, IPC High Density)
footprint TI-D8_M (SOIC, 8-Leads, Body 4.9x3.9mm, Pitch 1.27mm, IPC Low Density)
pins on every part: 4 VCC-/GND (power), 8 VCC+ (power)
part A pins: 1 OUT1 (out), 2 IN1- (in), 3 IN1+ (in)
part B pins: 5 IN2+ (in), 6 IN2- (in), 7 OUT2 (out)

## TLE2022IDG4
designator U?
Dual Precision Low-Power Single Supply Operational Amplifier, 4 to 40 V, -40 to 85 degC, 8-pin SOIC (D8), Green (RoHS & no Sb/Br); Manufacturer: Texas Instruments; PartNumber: TLE2022IDG4; CMRR(Min)(dB): 85; GBW(Typ)(MHz): 1.7; IIB(Max)(pA): 70000; Iq per channel(Max)(mA): 0.3; Number of Channels: 2; Packing: TUBE; Rating: Catalog; Slew Rate(Typ)(V/us): 0.5; Sub Family: High Supply Voltage Amplifier (>=30V), Low Offset Voltage Amplifier (<=500uV), Low Power Amp (<=500uA), Precision Amplifier; Total Supply Voltage(Max)(+5V is 5, +/-5V is 10): 40; Total Supply Voltage(Min)(+5V is 5, +/-5V is 10): 4; Vio (25C)(Max)(mV): 0.6; DatasheetVersion: SLOS191D; PackageVersion: 4040047-3/M, 06/2011; PackageReference: D8; PackageDescription: 8-Pin Plastic Small Outline, Body 4.9 x 3.9 mm, Pitch 1.27 mm; Supplier 1: Digi-Key; Supplier Part Number 1: TLE2022IDG4-ND; Supplier 2: Newark; Supplier Part Number 2: 33K7174; Supplier 3: Mouser; Supplier Part Number 3: 595-TLE2022IDG4; Eco-Plan: Green (RoHS & no Sb/Br); Offset Drift(Typ)(uV/C): 2; Mounting Technology: Surface Mount; Code_JEDEC: MS-012; ComponentLink1Description: Manufacturer URL; ComponentLink1URL: http://www.ti.com/; ComponentLink2Description: Datasheet; ComponentLink2URL: http://www.ti.com/lit/ds/symlink/tle2022.pdf; ComponentLink3Description: Package Specification; ComponentLink3URL: http://www.ti.com/litv/pdf/msoi002j
footprint TI-D8_N (SOIC, 8-Leads, Body 4.9x3.9mm, Pitch 1.27mm, IPC Medium Density)
footprint TI-D8_L (SOIC, 8-Leads, Body 4.9x3.9mm, Pitch 1.27mm, IPC High Density)
footprint TI-D8_M (SOIC, 8-Leads, Body 4.9x3.9mm, Pitch 1.27mm, IPC Low Density)
pins on every part: 4 VCC-/GND (power), 8 VCC+ (power)
part A pins: 1 OUT1 (out), 2 IN1- (in), 3 IN1+ (in)
part B pins: 5 IN2+ (in), 6 IN2- (in), 7 OUT2 (out)

## TLE2022IDR
designator U?
Dual Precision Low-Power Single Supply Operational Amplifier, 4 to 40 V, -40 to 85 degC, 8-pin SOIC (D8), Green (RoHS & no Sb/Br); Manufacturer: Texas Instruments; PartNumber: TLE2022IDR; CMRR(Min)(dB): 85; GBW(Typ)(MHz): 1.7; IIB(Max)(pA): 70000; Iq per channel(Max)(mA): 0.3; Number of Channels: 2; Packing: LARGE T&R; Rating: Catalog; Slew Rate(Typ)(V/us): 0.5; Sub Family: High Supply Voltage Amplifier (>=30V), Low Offset Voltage Amplifier (<=500uV), Low Power Amp (<=500uA), Precision Amplifier; Total Supply Voltage(Max)(+5V is 5, +/-5V is 10): 40; Total Supply Voltage(Min)(+5V is 5, +/-5V is 10): 4; Vio (25C)(Max)(mV): 0.6; DatasheetVersion: SLOS191D; PackageVersion: 4040047-3/M, 06/2011; PackageReference: D8; PackageDescription: 8-Pin Plastic Small Outline, Body 4.9 x 3.9 mm, Pitch 1.27 mm; Supplier 1: Digi-Key; Supplier Part Number 1: 296-26770-2-ND; Supplier 2: Digi-Key; Supplier Part Number 2: 296-26770-1-ND; Supplier 3: Digi-Key; Supplier Part Number 3: 296-26770-6-ND; Supplier 4: Newark; Supplier Part Number 4: 86W6262; Supplier 5: Newark; Supplier Part Number 5: 76C7588; Supplier 6: Mouser; Supplier Part Number 6: 595-TLE2022IDR; Eco-Plan: Green (RoHS & no Sb/Br); Offset Drift(Typ)(uV/C): 2; Mounting Technology: Surface Mount; Code_JEDEC: MS-012; ComponentLink1Description: Manufacturer URL; ComponentLink1URL: http://www.ti.com/; ComponentLink2Description: Datasheet; ComponentLink2URL: http://www.ti.com/lit/ds/symlink/tle2022.pdf; ComponentLink3Description: Package Specification; ComponentLink3URL: http://www.ti.com/litv/pdf/msoi002j
footprint TI-D8_N (SOIC, 8-Leads, Body 4.9x3.9mm, Pitch 1.27mm, IPC Medium Density)
footprint TI-D8_L (SOIC, 8-Leads, Body 4.9x3.9mm, Pitch 1.27mm, IPC High Density)
footprint TI-D8_M (SOIC, 8-Leads, Body 4.9x3.9mm, Pitch 1.27mm, IPC Low Density)
pins on every part: 4 VCC-/GND (power), 8 VCC+ (power)
part A pins: 1 OUT1 (out), 2 IN1- (in), 3 IN1+ (in)
part B pins: 5 IN2+ (in), 6 IN2- (in), 7 OUT2 (out)

## TLE2022IDRG4
designator U?
Dual Precision Low-Power Single Supply Operational Amplifier, 4 to 40 V, -40 to 85 degC, 8-pin SOIC (D8), Green (RoHS & no Sb/Br); Manufacturer: Texas Instruments; PartNumber: TLE2022IDRG4; CMRR(Min)(dB): 85; GBW(Typ)(MHz): 1.7; IIB(Max)(pA): 70000; Iq per channel(Max)(mA): 0.3; Number of Channels: 2; Packing: LARGE T&R; Rating: Catalog; Slew Rate(Typ)(V/us): 0.5; Sub Family: High Supply Voltage Amplifier (>=30V), Low Offset Voltage Amplifier (<=500uV), Low Power Amp (<=500uA), Precision Amplifier; Total Supply Voltage(Max)(+5V is 5, +/-5V is 10): 40; Total Supply Voltage(Min)(+5V is 5, +/-5V is 10): 4; Vio (25C)(Max)(mV): 0.6; DatasheetVersion: SLOS191D; PackageVersion: 4040047-3/M, 06/2011; PackageReference: D8; PackageDescription: 8-Pin Plastic Small Outline, Body 4.9 x 3.9 mm, Pitch 1.27 mm; Supplier 1: Digi-Key; Supplier Part Number 1: TLE2022IDRG4-ND; Supplier 2: Newark; Supplier Part Number 2: 54K1064; Supplier 3: Mouser; Supplier Part Number 3: 595-TLE2022IDRG4; Eco-Plan: Green (RoHS & no Sb/Br); Offset Drift(Typ)(uV/C): 2; Mounting Technology: Surface Mount; Code_JEDEC: MS-012; ComponentLink1Description: Manufacturer URL; ComponentLink1URL: http://www.ti.com/; ComponentLink2Description: Datasheet; ComponentLink2URL: http://www.ti.com/lit/ds/symlink/tle2022.pdf; ComponentLink3Description: Package Specification; ComponentLink3URL: http://www.ti.com/litv/pdf/msoi002j
footprint TI-D8_N (SOIC, 8-Leads, Body 4.9x3.9mm, Pitch 1.27mm, IPC Medium Density)
footprint TI-D8_L (SOIC, 8-Leads, Body 4.9x3.9mm, Pitch 1.27mm, IPC High Density)
footprint TI-D8_M (SOIC, 8-Leads, Body 4.9x3.9mm, Pitch 1.27mm, IPC Low Density)
pins on every part: 4 VCC-/GND (power), 8 VCC+ (power)
part A pins: 1 OUT1 (out), 2 IN1- (in), 3 IN1+ (in)
part B pins: 5 IN2+ (in), 6 IN2- (in), 7 OUT2 (out)

## TLE2022IP
designator U?
Dual Precision Low-Power Single Supply Operational Amplifier, 4 to 40 V, -40 to 85 degC, 8-pin DIP (P8), Pb-Free (RoHS); Manufacturer: Texas Instruments; PartNumber: TLE2022IP; CMRR(Min)(dB): 85; GBW(Typ)(MHz): 1.7; IIB(Max)(pA): 70000; Iq per channel(Max)(mA): 0.3; Number of Channels: 2; Packing: TUBE; Rating: Catalog; Slew Rate(Typ)(V/us): 0.5; Sub Family: High Supply Voltage Amplifier (>=30V), Low Offset Voltage Amplifier (<=500uV), Low Power Amp (<=500uA), Precision Amplifier; Total Supply Voltage(Max)(+5V is 5, +/-5V is 10): 40; Total Supply Voltage(Min)(+5V is 5, +/-5V is 10): 4; Vio (25C)(Max)(mV): 0.6; DatasheetVersion: SLOS191D; PackageVersion: 4040082/E, 04/2010; PackageReference: P8; PackageDescription: 8-Pin Plastic In-Line, Body 9.59 x 6.35 mm, Pitch 2.54 mm; Supplier 1: Digi-Key; Supplier Part Number 1: 296-10368-5-ND; Supplier 2: Newark; Supplier Part Number 2: 76C7589; Supplier 3: Mouser; Supplier Part Number 3: 595-TLE2022IP; Eco-Plan: Pb-Free (RoHS); Offset Drift(Typ)(uV/C): 2; Mounting Technology: Through Hole; Code_JEDEC: MS-001; ComponentLink1Description: Manufacturer URL; ComponentLink1URL: http://www.ti.com/; ComponentLink2Description: Datasheet; ComponentLink2URL: http://www.ti.com/lit/ds/symlink/tle2022.pdf; ComponentLink3Description: Package Specification; ComponentLink3URL: http://www.ti.com/litv/pdf/mpdi001b
footprint TI-P8 (DIP, 8-Leads, Body 9.59x6.35mm, Pitch 2.54mm)
pins on every part: 4 VCC-/GND (power), 8 VCC+ (power)
part A pins: 1 OUT1 (out), 2 IN1- (in), 3 IN1+ (in)
part B pins: 5 IN2+ (in), 6 IN2- (in), 7 OUT2 (out)